# Altium footprint library Trans_Infineon_Technologies_IRLR2905TRPBF_eec_MFG.PcbLib: 1 footprints
Each footprint in its own frame and in the unit in brackets; x right, y up, seen from the top. Pads: shape width x height; smd on the part's side, far side on the other; paste and mask are expansions set on the pad; w line width, h text height; cw(c..) or ccw(c..) is an arc to the next point about the centre after c.
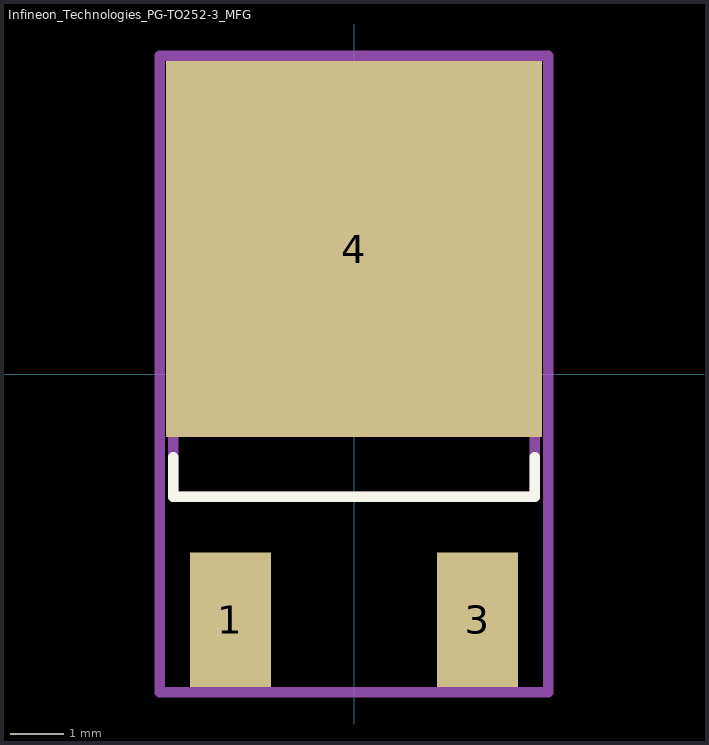
[diagram p0: the footprint, top view; thin cyan lines are the x and y axes]

## Infineon_Technologies_PG-TO252-3_MFG [mm]
pads (3):
  rect 1.5x2.5 smd paste+0 mask+0: 1(-2.3,-4.575) 3(2.3,-4.575)
  rect 7x7 smd paste+0 mask+0: 4(0,2.325)
Top Overlay:
  lines w0.2: -3.365,-1.55 -3.365,-2.285 3.365,-2.285 3.365,-1.55
Mechanical 10:
  lines w0.2: -3.615,-5.925 3.615,-5.925 3.615,5.925 -3.615,5.925 -3.615,-5.925
  text ".Designator" at 0,0 h1
Mechanical 12:
  lines w0.2: -3.365,-2.285 3.365,-2.285 3.365,3.935 -3.365,3.935 -3.365,-2.285
Mechanical 15:
  lines w0.1: -0.5,0 0.5,0 ; 0,-0.5 0,0.5
  lines w0.2: -3.615,-5.925 3.615,-5.925 3.615,5.925 -3.615,5.925 -3.615,-5.925
3D body "Trans_Infineon_Technologies_IRLR2905TRPBF_eec.STEP": height 0.25, standoff 0, extent -3.615,-5.925 3.615,5.925